# EAGLE library part IDC-HDR_CNC-TECH_3221-10-0200_ (library Chromation)
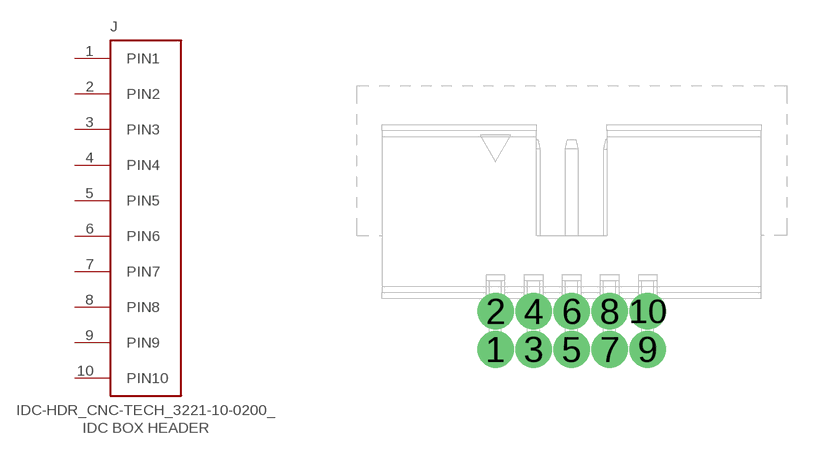
[diagram p3: symbol with the pads of IDC-HDR_CNC-TECH_3221-10-0200; footprint IDC-HDR_CNC-TECH_3221-10-0200]

Designator prefix J

## IDC-HDR_CNC-TECH_3221-10-0200_  [IDC-HDR_CNC-TECH_3221-10-0200]
1  PIN1
2  PIN2
3  PIN3
4  PIN4
5  PIN5
6  PIN6
7  PIN7
8  PIN8
9  PIN9
10  PIN10

## Footprint IDC-HDR_CNC-TECH_3221-10-0200 (pad centres in mm)
drill 0.711: 1 -2.54,-7.295; 2 -2.54,-6.025; 3 -1.27,-7.295; 4 -1.27,-6.025; 5 0,-7.295; 6 0,-6.025; 7 1.27,-7.295; 8 1.27,-6.025; 9 2.54,-7.295; 10 2.54,-6.025